# Altium schematic symbol library DCDC.SchLib: 15 symbols
Pins are listed as number, name and electrical type; pins without a type are passive.

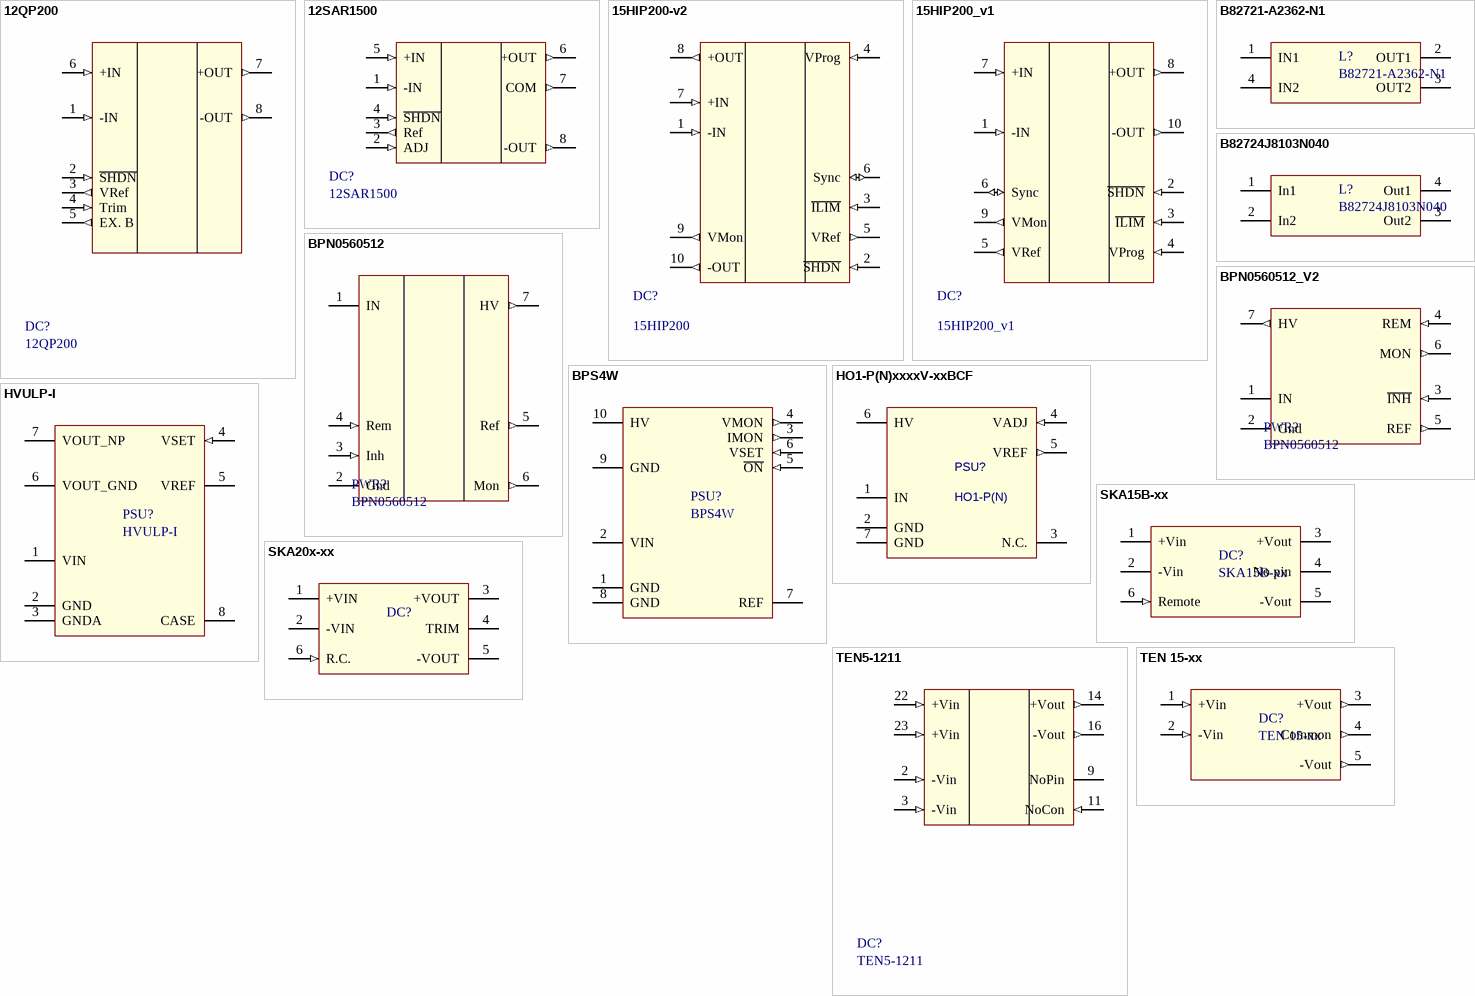
[diagram p0: symbols 12QP200 to TEN 15-xx]

## 12QP200
designator DC?
footprint 12QP200
pins: 1 -IN (in), 2 ~{SHDN} (in), 3 VRef (out), 4 Trim (in), 5 EX. B (out), 6 +IN (in), 7 +OUT (out), 8 -OUT (out)

## 12SAR1500
designator DC?
footprint 12SAR1500
pins: 1 -IN (in), 2 ADJ (in), 3 Ref (out), 4 ~{SHDN} (in), 5 +IN (in), 6 +OUT (out), 7 COM (out), 8 -OUT (out)

## 15HIP200-v2
designator DC?, comment 15HIP200
footprint 15HIP200
pins: 1 -IN (in), 2 ~{SHDN} (in), 3 ~{ILIM} (in), 4 VProg (in), 5 VRef (out), 6 Sync (io), 7 +IN (in), 8 +OUT (out), 9 VMon (out), 10 -OUT (out)

## 15HIP200_v1
designator DC?
footprint 15HIP200
pins: 1 -IN (in), 2 ~{SHDN} (in), 3 ~{ILIM} (in), 4 VProg (in), 5 VRef (out), 6 Sync (io), 7 +IN (in), 8 +OUT (out), 9 VMon (out), 10 -OUT (out)

## B82721-A2362-N1
designator L?
Current-compensated ring core double chokes. B82721-A2362-N1, 2x400мкГн, 3.6A; Manufacturer: Epcos; Part number: B82724J8103N040
footprint B82721-A2362-N1
pins: 1 IN1, 2 OUT1, 3 OUT2, 4 IN2

## B82724J8103N040
designator L?
Current-compensated ring core double chokes.; Manufacturer: Epcos; Part number: B82724J8103N040
footprint B82724J8103N040
pins: 1 In1, 2 In2, 3 Out2, 4 Out1

## BPN0560512
designator PWR?
footprint ISegBPS
pins: 1 IN (power), 2 Gnd (power), 3 Inh (in), 4 Rem (in), 5 Ref (out), 6 Mon (out), 7 HV (out)

## BPN0560512_V2
designator PWR?, comment BPN0560512
footprint ISegBPS
pins: 1 IN (power), 2 Gnd (power), 3 ~{INH} (in), 4 REM (in), 5 REF (out), 6 MON (out), 7 HV (out)

## BPS4W
designator PSU?
footprint ISegBPS4W
pins: 1 GND (power) "SUPPLY GND", 2 VIN (power), 3 IMON (out) "0..5V", 4 VMON (out) "0..5V", 5 ~{ON} (in) "LOW or n.c.  - HV is ON. HIGH - OFF.", 6 VSET (in), 7 REF (power) "Internal 5V reference output.", 8 GND (power) "SIGNAL GND", 9 GND (power) "HV GND", 10 HV (power)

## HO1-P(N)xxxxV-xxBCF
designator PSU?, comment HO1-P(N)
footprint HO1-P(N)xxxxV-xxBCF
pins: 1 IN (power), 2 GND (power), 3 N.C. (power), 4 VADJ (in), 5 VREF (out), 6 HV (power), 7 GND (power)

## HVULP-I
designator PSU?
footprint HVULP_I(PARAMERUS)
footprint HVULP_I_CASE3PIN_V1(PARAMERUS)
footprint HVULP_I_CASE3PIN_V2(PARAMERUS)
pins: 1 VIN (power), 2 GND (power) "SUPPLY GND", 3 GNDA (power) "SIGNAL GND", 4 VSET (in), 5 VREF (power) "Internal 5V reference output.", 6 VOUT_GND (power) "HV GND", 7 VOUT_NP (power), 8 CASE (power) "SUPPLY GND"

## SKA15B-xx
designator DC?
9.9~15W DC-DC Regulated Single Output Converter.
footprint SKA15B-xx
pins: 1 +Vin (power), 2 -Vin (power), 3 +Vout (power), 4 No pin, 5 -Vout (power), 6 Remote (in)

## SKA20x-xx
designator DC?
20W DC-DC Regulated Single Output Converter.
footprint SKA15B-xx
pins: 1 +VIN (power), 2 -VIN (power), 3 +VOUT (power), 4 TRIM, 5 -VOUT (power), 6 R.C. (in)

## TEN5-1211
designator DC?
footprint TEN5-1211
pins: 2 -Vin (in), 3 -Vin (in), 9 NoPin, 11 NoCon (in), 14 +Vout (out), 16 -Vout (out), 22 +Vin (in), 23 +Vin (in)

## TEN 15-xx
designator DC?
TEN 15 Series, 15 Watt
footprint SKA15B-xx
pins: 1 +Vin (in), 2 -Vin (in), 3 +Vout (out), 4 Common (out), 5 -Vout (out)